# EAGLE library part DRV2667-TINDIE (library AKA_lib)
Tindie DRV2667 breakout board from Fyber Labs <https://www.tindie.com/products/Fyberlabs/piezo-haptic-flex-module/>
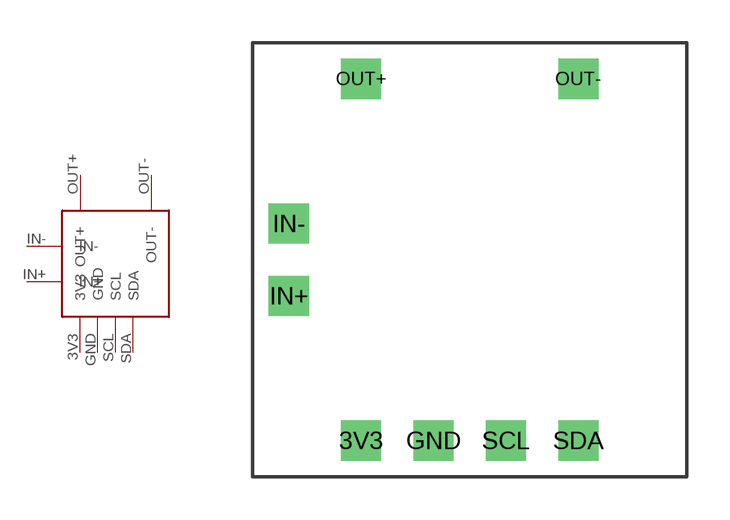
[diagram p20: symbol with the pads of DRV2667-TINDIE; footprint DRV2667-TINDIE]

Designator prefix -

## DRV2667-TINDIE  [DRV2667-TINDIE]
3V3  3V3  pwr
GND  GND  pwr
IN+  IN+  in
IN-  IN-  in
OUT+  OUT+  out
OUT-  OUT-  out
SCL  SCL
SDA  SDA

## Footprint DRV2667-TINDIE (pad centres in mm)
drill 0.9 square: 3V3 0,0; GND 2.54,0; IN+ -2.54,5.08; IN- -2.54,7.62; OUT+ 0,12.7; OUT- 7.62,12.7; SCL 5.08,0; SDA 7.62,0